# Altium schematic symbol library BJT_Diodes_Incorporated_ZTD09N50DE6QTA_1A_NPN.SchLib: 1 symbol
Pins are listed as number, name and electrical type; pins without a type are passive.

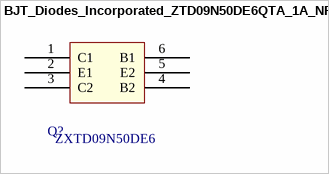
[diagram p0: symbol BJT_Diodes_Incorporated_ZTD09N50DE6QTA_1A_NPN]

## BJT_Diodes_Incorporated_ZTD09N50DE6QTA_1A_NPN
designator Q?  Series: ZXTD09N50DE6  (hidden comment: BJT_Diodes_Incorporated_ZTD09N50DE6QTA_1A_NPN)
Bipolar Transistors - BJT 50V Dual NPN Low Sat 1A 7V Vebo; Supplier 1: Mouser; Supplier Part Number 1: 621-ZTD09N50DE6QTA
pins: 1 C1, 2 E1, 3 C2, 4 B2, 5 E2, 6 B1